# Altium footprint library QFN200P300W300X90-4.PcbLib: 1 footprints
Each footprint in its own frame and in the unit in brackets; x right, y up, seen from the top. Pads: shape width x height; smd on the part's side, far side on the other; paste and mask are expansions set on the pad; w line width, h text height; cw(c..) or ccw(c..) is an arc to the next point about the centre after c.
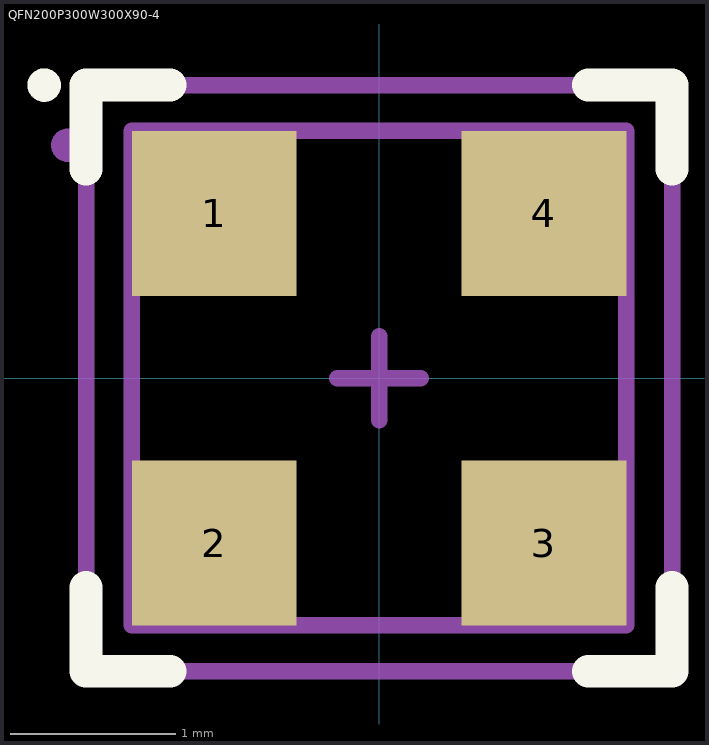
[diagram p0: the footprint, top view; thin cyan lines are the x and y axes]

## QFN200P300W300X90-4 [mm]
pads (4):
  rect 1x1 smd: 1(-1,1) 2(-1,-1) 3(1,-1) 4(1,1)
Top Overlay:
  circle w0.102: c-2.032,1.778 r0.051
  lines w0.2: -1.778,-1.27 -1.778,-1.778 -1.27,-1.778 ; -1.778,1.27 -1.778,1.778 -1.27,1.778 ; 1.27,-1.778 1.778,-1.778 1.778,-1.27 ; 1.27,1.778 1.778,1.778 1.778,1.27
Mechanical 1:
  circle w0.102: c-1.889,1.413 r0.051
  lines w0.1: -1.5,-1.5 -1.5,1.5 1.5,1.5 1.5,-1.5 -1.5,-1.5
  text ".Designator" at -0.014,0.254 h0.6
Mechanical 15:
  lines w0.1: -0.254,0 0.254,0 ; 0,-0.254 0,0.254 ; -1.778,-1.778 -1.778,1.778 1.778,1.778 1.778,-1.778 -1.778,-1.778
3D body "c-cat-blps0037-a-3d.stp": height 0.95, standoff 0.05, extent -1.5,-1.5 1.5,1.5